# Altium schematic symbol library TMP112AQDRLRQ1.SchLib: 1 symbol
Pins are listed as number, name and electrical type; pins without a type are passive.

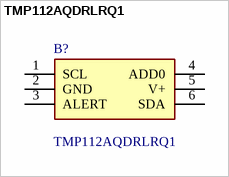
[diagram p0: symbol TMP112AQDRLRQ1]

## TMP112AQDRLRQ1
designator B?
Automotive Grade, 1.4V-Capable +/-0.5C Temperature Sensor with Alert Function and I2C/SMBus; Manufacturer_Name: Texas Instruments; Geometry.Height: 0.6mm; Mouser Part Number: 595-TMP112AQDRLRQ1; Mouser Price/Stock: https://www.mouser.co.uk/ProductDetail/Texas-Instruments/TMP112AQDRLRQ1?qs=asCBFxFfL1Q5YmJCm%252BGnCQ%3D%3D; Manufacturer_Part_Number: TMP112AQDRLRQ1; Datasheet Link: http://www.ti.com/lit/gpn/tmp112-q1
footprint SOTFL50P160X60-6N
pins: 1 SCL, 2 GND, 3 ALERT, 4 ADD0, 5 V+, 6 SDA